# EAGLE library part MAX31855KASA+ (library HyTechDevices)
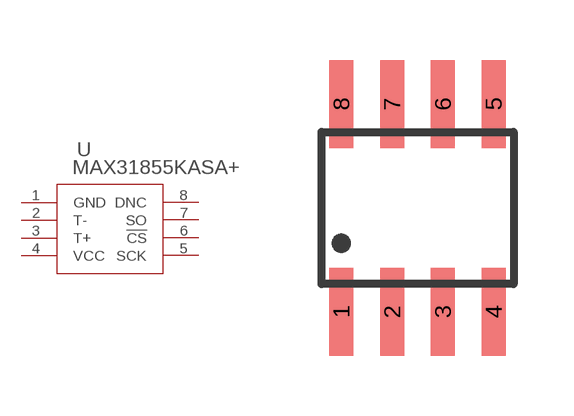
[diagram p32: symbol with the pads of SOIC-08; footprint SOIC-08]

Designator prefix U

## MAX31855KASA+  [SOIC-08]
1  GND  pwr
2  T-  in
3  T+  in
4  VCC  pwr
5  SCK  in
6  !CS  pas
7  SO  out
8  DNC  nc

## Footprint SOIC-08 (pad centres in mm)
SMALL OUTLINE INTEGRATED CIRCUIT
smd 0.6 x 2.2: 1 -1.905,-2.6; 2 -0.635,-2.6; 3 0.635,-2.6; 4 1.905,-2.6; 5 1.905,2.6; 6 0.635,2.6; 7 -0.635,2.6; 8 -1.905,2.6